# Altium footprint library ECG.PcbLib: 14 footprints
Each footprint in its own frame and in the unit in brackets; x right, y up, seen from the top. Pads: shape width x height; smd on the part's side, far side on the other; paste and mask are expansions set on the pad; w line width, h text height; cw(c..) or ccw(c..) is an arc to the next point about the centre after c.
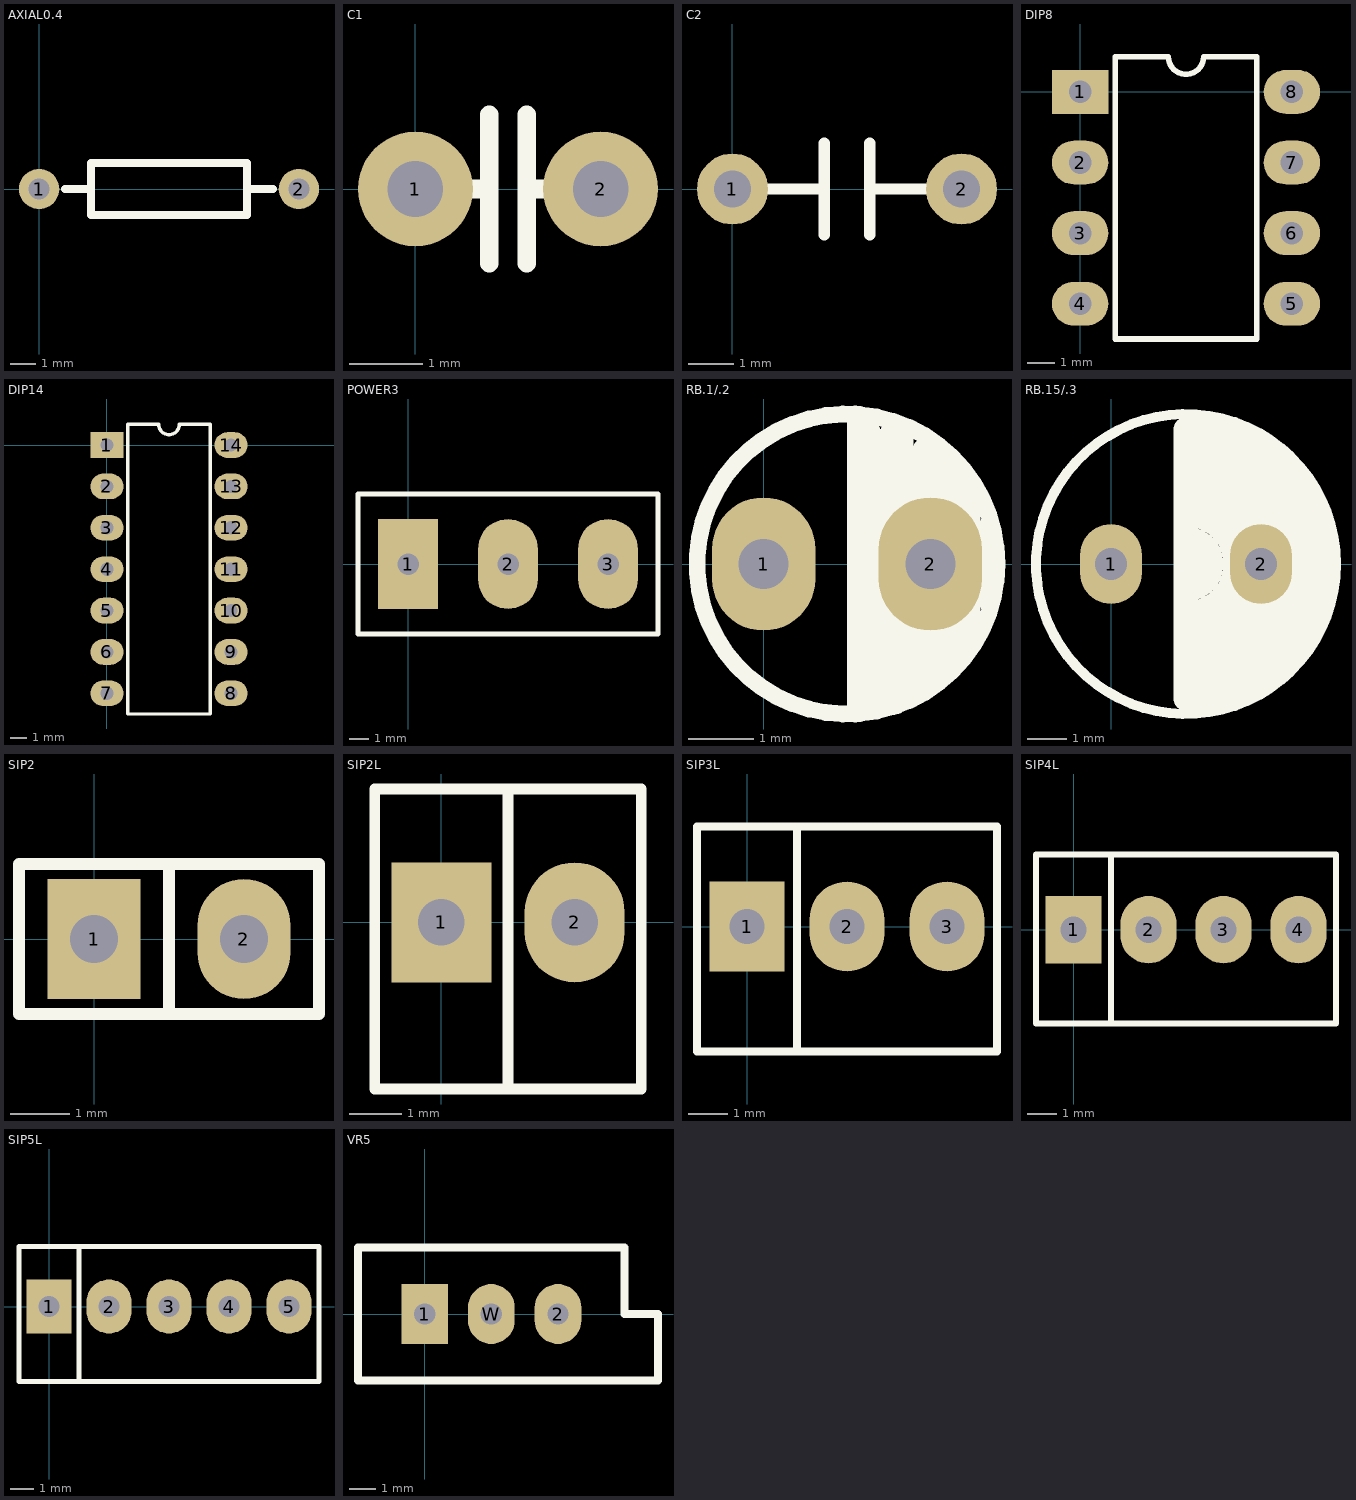
[diagram p0: the footprints below, top view; thin cyan lines are the x and y axes]

## AXIAL0.4 [mil]
height 230.31
pads (2):
  round 62 hole 32: 1(0,0) 2(400,0)
Top Overlay:
  lines w12: 40,0 80,0 ; 320,0 360,0 ; 80,-40 80,40 320,40 320,-40 80,-40
3D body: height 128.35, standoff -78.74, extent -10.81,-50 412.81,49.21

## C1 [mil]
height 230.31
pads (2):
  round 62 hole 30: 1(0,0) 2(100,0)
Top Overlay:
  lines w10: 0,0 40,0 ; 40,-40 40,0 ; 40,40 40,0 ; 60,-40 60,0 ; 60,40 60,0 ; 100,0 60,0
3D body: height 233.11, standoff -78.74, extent -64.93,-33.39 164.93,33.39

## C2 [mil]
height 230.31
pads (2):
  round 62 hole 32: 1(0,0) 2(200,0)
Top Overlay:
  lines w10: 0,0 80,0 ; 80,-40 80,0 ; 80,40 80,0 ; 120,-40 120,0 ; 120,40 120,0 ; 200,0 120,0
3D body: height 413.39, standoff -81.38, extent -59.06,-49.41 255.91,49.41

## DIP8 [mil]
height 230.31
pads (8):
  rect 80x62 hole 32: 1(0,0)
  oval 80x62 hole 32: 2(0,-100) 3(0,-200) 4(0,-300) 5(300,-300) 6(300,-200) 7(300,-100) 8(300,0)
Top Overlay:
  lines w8: 50,-350 250,-350 250,50 175,50 cw(c150,50) 125,50 50,50 50,-350
3D body: height 179.92, standoff -150, extent -9.93,-342.07 297.94,48.08

## DIP14 [mil]
height 230.31
pads (14):
  rect 80x62 hole 32: 1(0,0)
  oval 80x62 hole 32: 2(0,-100) 3(0,-200) 4(0,-300) 5(0,-400) 6(0,-500) 7(0,-600) 8(300,-600) 9(300,-500) 10(300,-400) 11(300,-300) 12(300,-200) 13(300,-100) 14(300,0)
Top Overlay:
  lines w8: 50,-650 250,-650 250,50 175,50 cw(c150,50) 125,50 50,50 50,-650
3D body: height 165, standoff -105, extent -5,-675 305,75

## POWER3 [mil]
height 230.31
pads (3):
  rect 120x180 hole 43: 1(0,0)
  oval 120x180 hole 43: 2(200,0) 3(400,0)
Top Overlay:
  lines w10: -100,-140 -100,140 500,140 500,-140 -100,-140
3D body: height 472.44, standoff -153.54, extent -105,-150 495,188.58

## RB.1/.2 [mil]
height 230.31
pads (2):
  oval 62x80 hole 30: 1(0,0) 2(100,0)
Top Overlay:
  circle w10: c50,0 r90
  lines w10: 55,-90 55,90 65,80 65,-85 75,-85 75,80 85,80 85,-80 95,-70 95,70 105,60 105,-60 ; 80,-85 80,75 ; 90,-75 105,-60 ; 110,-60 110,-45 110,50 ; 110,55 115,50 115,-50 105,-60 ; 120,-45 125,-40 125,40 120,45 ; 135,-25 135,25
3D body: height 287.4, standoff -47.24, extent -48.39,-98.15 148.39,98.41

## RB.15/.3 [mil]
height 230.31
pads (2):
  oval 62x80 hole 32: 1(0,0) 2(150,0)
Top Overlay:
  circle w10: c75,0 r150
  lines w25: 75,-111.8 ccw(c75,0) 75,111.8 ; 75,-90.14 ccw(c75,0) 75,90.14 ; 75,-70.71 ccw(c75,0) 75,70.71 ; 75,-50 ccw(c75,0) 75,50 ; 75,-25 ccw(c75,0) 75,25 ; 75,-134.63 ccw(c75,0) 75,134.63 75,-134.63
3D body: height 503.94, standoff -27.56, extent -82.42,-159.49 232.42,155

## SIP2 [mil]
height 230.31
pads (2):
  rect 62x80 hole 32: 1(0,0)
  oval 62x80 hole 32: 2(100,0)
Top Overlay:
  lines w8: 50,-50 50,50 ; -50,-50 150,-50 150,50 -50,50 -50,-50
3D body: height 336.22, standoff -118.11, extent -50,-50 150,50
3D body: height 646.1, standoff 101.93, extent -48.43,-47.24 148.43,47.24

## SIP2L [mil]
height 230.31
pads (2):
  rect 75x90 hole 35: 1(0,0)
  oval 75x90 hole 35: 2(100,0)
Top Overlay:
  lines w8: 50,-125 50,100 ; -50,-125 -50,100 150,100 150,-125 -50,-125
3D body: height 275.59, standoff -129.92, extent -96.35,-134 198.93,90.41

## SIP3L [mil]
height 230.31
pads (3):
  rect 75x90 hole 35: 1(0,0)
  oval 75x90 hole 35: 2(100,0) 3(200,0)
Top Overlay:
  lines w8: 50,-125 50,100 ; -50,-125 250,-125 250,100 -50,100 -50,-125
3D body: height 275.59, standoff -137.8, extent -96.85,-135.83 296.85,88.58

## SIP4L [mil]
height 230.31
pads (4):
  rect 75x90 hole 35: 1(0,0)
  oval 75x90 hole 35: 2(100,0) 3(200,0) 4(300,0)
Top Overlay:
  lines w8: 50,-125 50,100 ; -50,-125 350,-125 350,100 -50,100 -50,-125
3D body: height 275.59, standoff -137.8, extent -93.7,-135.83 398.42,88.58

## SIP5L [mil]
height 230.31
pads (5):
  rect 75x90 hole 35: 1(0,0)
  oval 75x90 hole 35: 2(100,0) 3(200,0) 4(300,0) 5(400,0)
Top Overlay:
  lines w8: 50,-125 50,100 ; -50,-125 450,-125 450,100 -50,100 -50,-125
3D body: height 275.59, standoff -137.8, extent -92.13,-135.83 498.42,88.58

## VR5 [mil]
height 230.31
pads (3):
  rect 70x90 hole 32: 1(0,0)
  oval 70x90 hole 32: 2(200,0) W(100,0)
Top Overlay:
  lines w12: -100,-100 -100,100 300,100 300,0 350,0 350,-100 -100,-100
3D body: height 479.45, standoff -161.1, extent -90.91,-96.88 294.91,98